# EAGLE library part AS-ITM-00080 (library tinycircuits)
CONN MAGJACK 1PORT 100 BASE-T
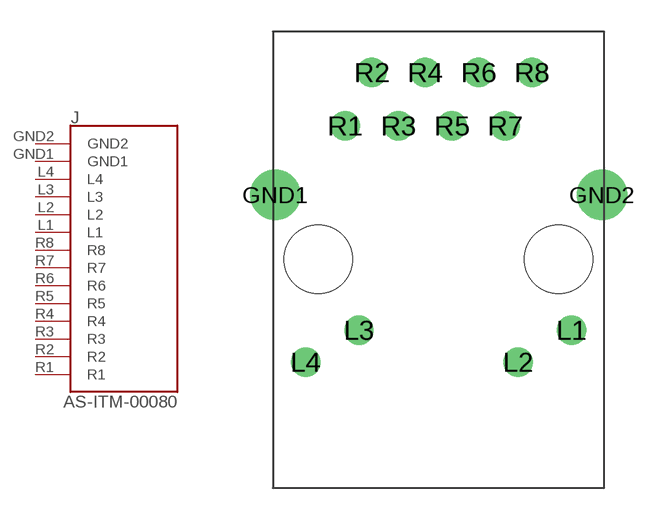
[diagram p31: symbol with the pads of RB1-125BAG1A; footprint RB1-125BAG1A]

Designator prefix J

## AS-ITM-00080 (PARTNO: AS-ITM-00080; VALUE: RB1-125BAG1A)  [RB1-125BAG1A]
GND1  GND1
GND2  GND2
L1  L1
L2  L2
L3  L3
L4  L4
R1  R1
R2  R2
R3  R3
R4  R4
R5  R5
R6  R6
R7  R7
R8  R8

## Footprint RB1-125BAG1A (pad centres in mm)
drill 1.6: GND1 0.1,13.94; GND2 15.65,13.94
drill 0.89: L1 14.2,7.51; L2 11.66,5.99; L3 4.09,7.51; L4 1.55,5.99
drill 0.9: R1 3.43,17.23; R2 4.7,19.77; R3 5.97,17.23; R4 7.24,19.77; R5 8.51,17.23; R6 9.78,19.77; R7 11.05,17.23; R8 12.32,19.77
hole 3.25 at 2.16,10.89
hole 3.25 at 13.59,10.89